# Altium schematic symbol library Sensor_Shield_V2.SchLib: 21 symbols
Pins are listed as number, name and electrical type; pins without a type are passive.

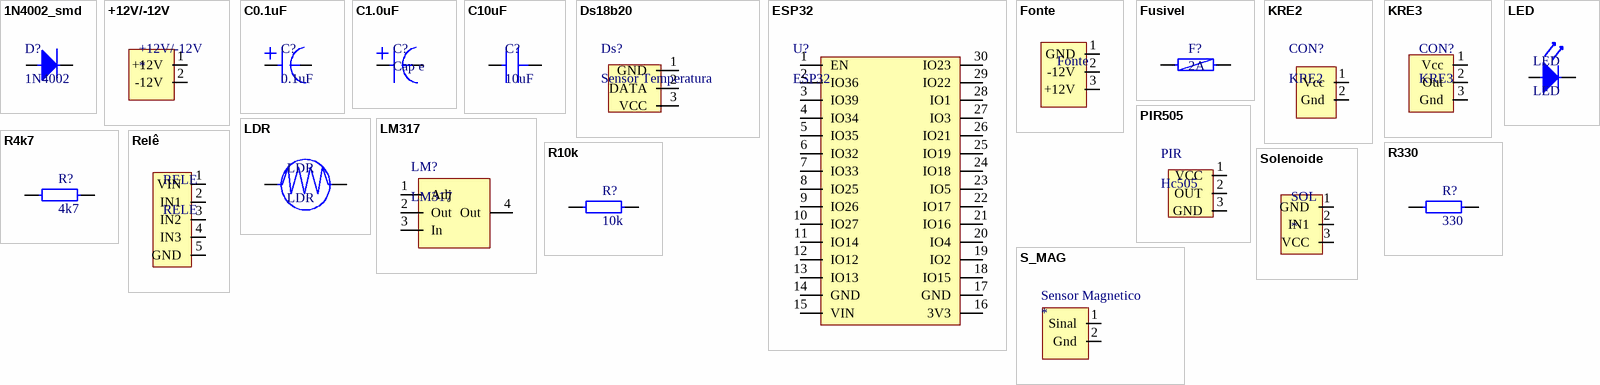
[diagram p0: symbols 1N4002_smd to Solenoide]

## 1N4002_smd
designator D?, comment 1N4002
Diodo
footprint Do-214ac
pins: 1, 2

## +12V/-12V
designator +12V/-12V
footprint KRE2
pins: 1 +12V, 2 -12V

## C0.1uF
designator C?, comment 0.1uF
Cap Tantalo
footprint C_Tantalo
pins: 1, 2

## C1.0uF
designator C?, comment Cap e
footprint C_Eletrolitico
pins: 1, 2

## C10uF
designator C?, comment 10uF
C adj
footprint C_ADJ
pins: 1, 2

## Ds18b20
designator Ds?, comment Sensor Temperatura
Ds18b20
footprint Ds18b20
pins: 1 GND, 2 DATA, 3 VCC

## ESP32
designator U?
footprint MODULO_ESP32
pins: 1 EN, 2 IO36, 3 IO39, 4 IO34, 5 IO35, 6 IO32, 7 IO33, 8 IO25, 9 IO26, 10 IO27, 11 IO14, 12 IO12, 13 IO13, 14 GND, 15 VIN, 16 3V3, 17 GND, 18 IO15, 19 IO2, 20 IO4, 21 IO16, 22 IO17, 23 IO5, 24 IO18, 25 IO19, 26 IO21, 27 IO3, 28 IO1, 29 IO22, 30 IO23

## Fonte
designator Fonte
footprint KRE3
pins: 1 GND, 2 -12V, 3 +12V

## Fusivel
designator F?, comment 2A
pins: 1, 2

## KRE2
designator CON?
footprint KRE2
pins: 1 Vcc, 2 Gnd

## KRE3
designator CON?
footprint KRE3
pins: 1 Vcc, 2 Out, 3 Gnd

## LDR
designator LDR
footprint LDR
pins: 1, 2

## LED
designator LED
footprint R0805
pins: 1 A, 2 K

## LM317
designator LM?
footprint LM317 (D2-PAK, 3-Pads, Body 7,93x8,57mm (max), IPC Medium Density)
pins: 1 Adj, 2 Out, 3 In, 4 Out

## PIR505
designator PIR, comment Hc505
footprint PIR
pins: 1 VCC, 2 OUT, 3 GND

## R4k7
designator R?, comment 4k7
R0805
footprint R0805
pins: 1, 2

## R10k
designator R?, comment 10k
R0805
footprint R0805
pins: 1, 2

## R330
designator R?, comment 330
R0805
footprint R0805
pins: 1, 2

## Relê
designator RELE, comment RELE
footprint CON_5_TERM
pins: 1 VIN, 2 IN1, 3 IN2, 4 IN3, 5 GND

## S_MAG
designator Sensor Magnetico
footprint KRE2
pins: 1 Sinal, 2 Gnd

## Solenoide
designator SOL
footprint KRE3
pins: 1 GND, 2 IN1, 3 VCC